# Altium integrated library VEML7700-TR.IntLib: 1 symbol
Pins are listed as number, name and electrical type; pins without a type are passive.

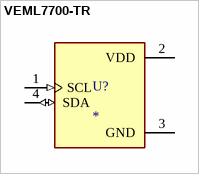
[diagram p0: symbol VEML7700-TR]

## VEML7700-TR
designator U?
Optical Sensor Ambient 545nm I2C 4-SMD, J-Lead; MF: Vishay; MP: VEML7700-TR; SnapEDA_Link: https://www.snapeda.com/parts/VEML7700-TR/Vishay+Semiconductor+Opto+Division/view-part/?ref=snap; Package: Package; Value: *; Check_prices: https://www.snapeda.com/parts/VEML7700-TR/Vishay+Semiconductor+Opto+Division/view-part/?ref=eda
footprint XDCR_VEML7700-TR
pins: 1 SCL (in), 2 VDD (power), 3 GND (power), 4 SDA (io)